# EAGLE library part MTA10 (library con-amp)
AMP connector
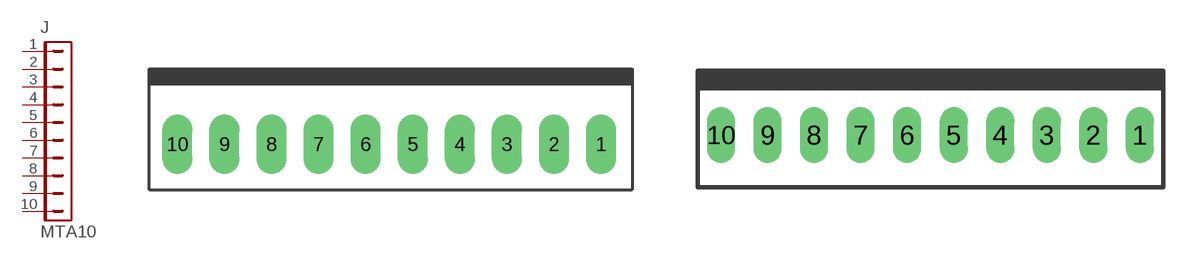
[diagram p115: symbol with the pads of MTA10-156; footprints MTA10-156, MTA10-100]

Designator prefix J

## MTA10-156  [MTA10-156]
1  1  pas
2  2  pas
3  3  pas
4  4  pas
5  5  pas
6  6  pas
7  7  pas
8  8  pas
9  9  pas
10  10  pas

## MTA10-100  [MTA10-100]
Pads as for MTA10-156

## Footprint MTA10-156 (pad centres in mm)
MTA Connector - 0.156" pitch
drill 1.676 long: 1 17.831,0; 2 13.868,0; 3 9.906,0; 4 5.944,0; 5 1.981,0; 6 -1.981,0; 7 -5.944,0; 8 -9.906,0; 9 -13.868,0; 10 -17.831,0

## Footprint MTA10-100 (pad centres in mm)
MTA Connector - 0.1" pitch
drill 1.016 long: 1 11.43,0; 2 8.89,0; 3 6.35,0; 4 3.81,0; 5 1.27,0; 6 -1.27,0; 7 -3.81,0; 8 -6.35,0; 9 -8.89,0; 10 -11.43,0